# EAGLE library part LTC6802-2 (library BMS)
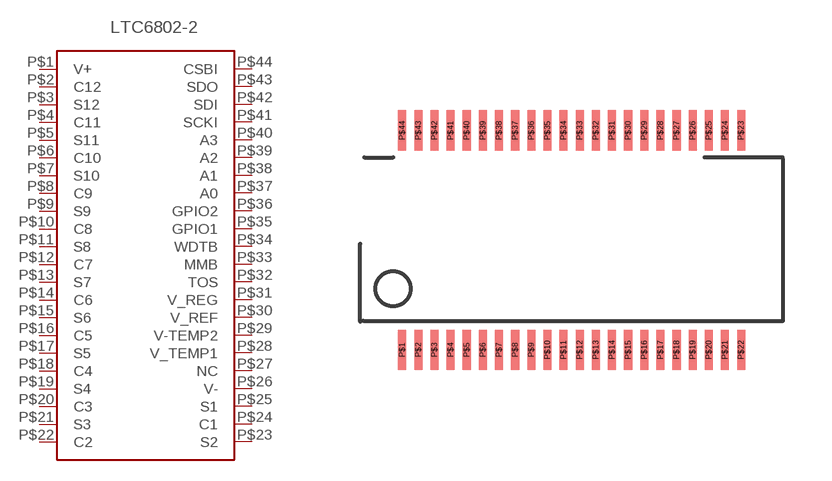
[diagram p3: symbol with the pads of SSOP-44; footprint SSOP-44]

Designator prefix -

## LTC6802-2  [SSOP-44]
P$1  V+
P$2  C12
P$3  S12
P$4  C11
P$5  S11
P$6  C10
P$7  S10
P$8  C9
P$9  S9
P$10  C8
P$11  S8
P$12  C7
P$13  S7
P$14  C6
P$15  S6
P$16  C5
P$17  S5
P$18  C4
P$19  S4
P$20  C3
P$21  S3
P$22  C2
P$23  S2
P$24  C1
P$25  S1
P$26  V-
P$27  NC
P$28  V_TEMP1
P$29  V-TEMP2
P$30  V_REF
P$31  V_REG
P$32  TOS
P$33  MMB
P$34  WDTB
P$35  GPIO1
P$36  GPIO2
P$37  A0
P$38  A1
P$39  A2
P$40  A3
P$41  SCKI
P$42  SDI
P$43  SDO
P$44  CSBI

## Footprint SSOP-44 (pad centres in mm)
44-Lead Plastic SSOP (5.3mm) Reference LTC DWG # 05-08-1754 rev 0 Linear Tech LTC6802 http://cds.linear.com/docs/Datasheet/68021fa.pdf
smd 0.25 x 1.25: P$1 -5.05,-3.04; P$2 -4.55,-3.04; P$3 -4.05,-3.04; P$4 -3.55,-3.04; P$5 -3.05,-3.04; P$6 -2.55,-3.04; P$7 -2.05,-3.04; P$8 -1.55,-3.04; P$9 -1.05,-3.04; P$10 -0.55,-3.04; P$11 -0.05,-3.04; P$12 0.45,-3.04; P$13 0.95,-3.04; P$14 1.45,-3.04; P$15 1.95,-3.04; P$16 2.45,-3.04; P$17 2.95,-3.04; P$18 3.45,-3.04; P$19 3.95,-3.04; P$20 4.45,-3.04; P$21 4.95,-3.04; P$22 5.45,-3.04; P$23 5.45,3.76; P$24 4.95,3.76; P$25 4.45,3.76; P$26 3.95,3.76; P$27 3.45,3.76; P$28 2.95,3.76; P$29 2.45,3.76; P$30 1.95,3.76; P$31 1.45,3.76; P$32 0.95,3.76; P$33 0.45,3.76; P$34 -0.05,3.76; P$35 -0.55,3.76; P$36 -1.05,3.76; P$37 -1.55,3.76; P$38 -2.05,3.76; P$39 -2.55,3.76; P$40 -3.05,3.76; P$41 -3.55,3.76; P$42 -4.05,3.76; P$43 -4.55,3.76; P$44 -5.05,3.76